# Altium schematic symbol library SENSORS.SchLib: 8 symbols
Pins are listed as number, name and electrical type; pins without a type are passive.

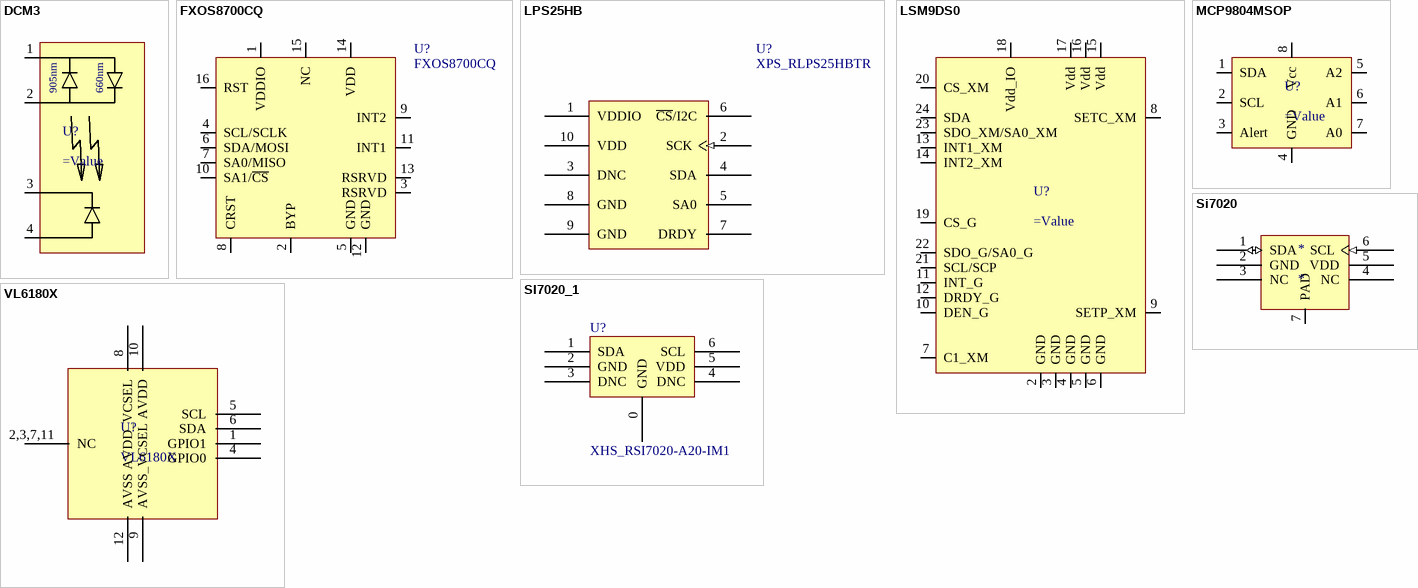
[diagram p0: symbols DCM3 to VL6180X]

## DCM3
designator U?
Reflective Blood Sensor
pins: 1 in1, 2 in2, 3 PHK, 4 PHA
text: 905nm; 660nm

## FXOS8700CQ
designator U?
6-axis sensor with integrated linear accelerometer and magnetometer; Code: ISR01100034; Part Number: FXOS8700CQ; Part Type: INERCIAL; Value: FXOS8700CQ; Library path: Sensors.SchLib; Footprint path: QFN_Sq_50P_Side_V.PcbLib; Supplier 1: Digi-Key; Supplier Part Number 1: MMA8452QR1TR-ND
footprint PQFN50P300X300-16V
pins: 1 VDDIO, 2 BYP, 3 RSRVD, 4 SCL/SCLK, 5 GND, 6 SDA/MOSI, 7 SA0/MISO, 8 CRST, 9 INT2, 10 SA1/~{CS}, 11 INT1, 12 GND, 13 RSRVD, 14 VDD, 15 NC, 16 RST

## LPS25HB
designator U?, comment XPS_RLPS25HBTR
MEMS pressure sensor: 260-1260 hPa absolute digital output barometer; Manufacturer: ST; Revised: 120406; target: BASE; code: ISR01100032; trace: YES; Part Number: LPS25HBTR; Part Type: PRESIO; Value: LPS25HBTR; Library path: Sensors.SchLib; Footprint path: FootprintsPersonals.PcbLib
footprint HLGA-10L
pins: 1 VDDIO (power), 2 SCK (in), 3 DNC, 4 SDA, 5 SA0, 6 ~{CS}/I2C, 7 DRDY, 8 GND (power), 9 GND (power), 10 VDD (power)

## LSM9DS0
designator U?
pins: 2 GND, 3 GND, 4 GND, 5 GND, 6 GND, 7 C1_XM, 8 SETC_XM, 9 SETP_XM, 10 DEN_G, 11 INT_G, 12 DRDY_G, 13 INT1_XM, 14 INT2_XM, 15 Vdd, 16 Vdd, 17 Vdd, 18 Vdd_IO, 19 CS_G, 20 CS_XM, 21 SCL/SCP, 22 SDO_G/SA0_G, 23 SDO_XM/SA0_XM, 24 SDA

## MCP9804MSOP
designator U?
pins: 1 SDA, 2 SCL, 3 Alert, 4 GND, 5 A2, 6 A1, 7 A0, 8 Vcc

## Si7020
designator *
Temperature and humidity I2C sensor; Manufacturer: Silicon Labs; Part Number: Si7020-A20; Value: Si7020
pins: 1 SDA (io), 2 GND (power), 3 NC, 4 NC, 5 VDD (power), 6 SCL (in), 7 PAD (power)

## SI7020_1
designator U?, comment XHS_RSI7020-A20-IM1
I / 2C HUMIDITY AND TEMPERATURE SENSOR; Manufacturer: SILICON LABS; Revised: 120406; target: BASE; code: ISR01100033; trace: YES; Part Number: Si7020-A20-IM; Part Type: MULTIPLE; Value: Si7020-A20-IM; Library path: Sensors.SchLib; Footprint path: FootprintsPersonals.PcbLib
footprint DFN6_3x3 (Footprint not found)
pins: 0 GND, 1 SDA, 2 GND, 3 DNC, 4 DNC, 5 VDD, 6 SCL

## VL6180X
designator U?
Proximity and ambient light sensing (ALS) module; Value: VL6180X
footprint VL6180X
pins: 1 GPIO1, 2,3,7,11 NC, 4 GPIO0, 5 SCL, 6 SDA, 8 AVDD_VCSEL, 9 AVSS_VCSEL, 10 AVDD, 12 AVSS